# Altium footprint library Avago Technologies Footprints.PcbLib: 71 footprints (part 5 of 5)
Each footprint in its own frame and in the unit in brackets; x right, y up, seen from the top. Pads: shape width x height; smd on the part's side, far side on the other; paste and mask are expansions set on the pad; w line width, h text height; cw(c..) or ccw(c..) is an arc to the next point about the centre after c.
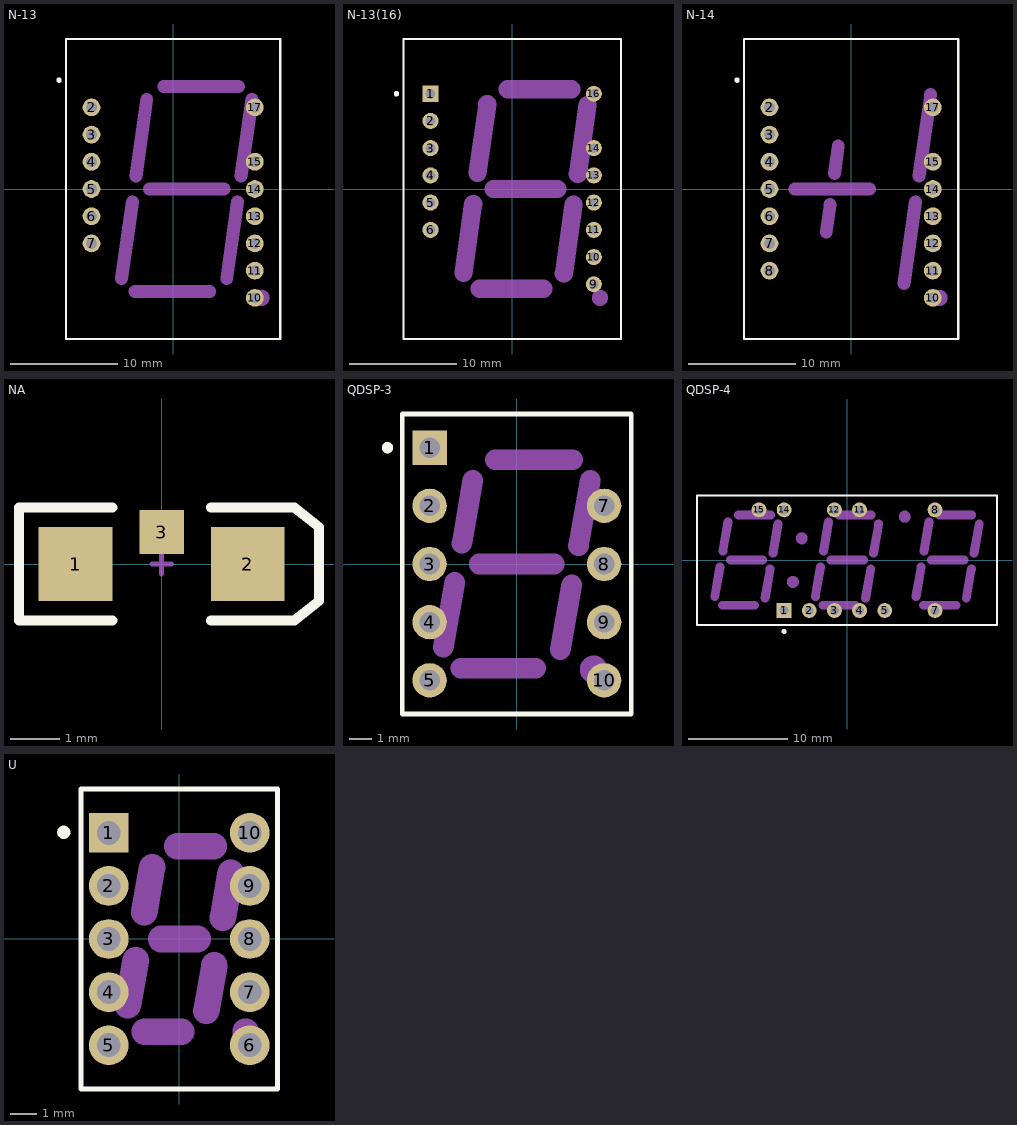
[diagram p4: the footprints below, top view; thin cyan lines are the x and y axes]

## N-13 [mm] "LED, 7-Segment Display, 20.32 mm, RHD; 18 Leads (5 Absent); Row Space 15.24 mm; Pitch 2.54 mm"
height 8.64
pads (13):
  round 1.65 hole 1: 2(-7.62,7.62) 3(-7.62,5.08) 4(-7.62,2.54) 5(-7.62,0) 6(-7.62,-2.54) 7(-7.62,-5.08) 10(7.62,-10.16) 11(7.62,-7.62) 12(7.62,-5.08) 13(7.62,-2.54) 14(7.62,0) 15(7.62,2.54) 17(7.62,7.62)
Top Overlay:
  circle w0.25: c-10.65,10.16 r0.125
  lines w0.2: -10,-14 -10,14 10,14 10,-14 -10,-14
Mechanical 1:
  circle w1.2: c8.25,-10.16 r0.15
  lines w1.2: -4.81,-8.36 -3.8,-1.2 ; -3.57,-9.56 3.42,-9.56 ; -3.47,1.2 -2.46,8.38 ; -2.22,0 4.76,0 ; -0.88,9.56 6.11,9.56 ; 5,-8.36 6,-1.2 ; 6.34,1.2 7.35,8.37

## N-13(16) [mm] "LED, 7-Segment Display, 20.32 mm, RHD; 16 Leads (3 Absent); Row Space 15.24 mm; Pitch 2.54 mm"
height 8.64
pads (13):
  rect 1.5x1.5 hole 0.9: 1(-7.62,8.89)
  round 1.5 hole 0.9: 2(-7.62,6.35) 3(-7.62,3.81) 4(-7.62,1.27) 5(-7.62,-1.27) 6(-7.62,-3.81) 9(7.62,-8.89) 10(7.62,-6.35) 11(7.62,-3.81) 12(7.62,-1.27) 13(7.62,1.27) 14(7.62,3.81) 16(7.62,8.89)
Top Overlay:
  circle w0.25: c-10.8,8.89 r0.125
  lines w0.2: -10.15,-14 -10.15,14 10.15,14 10.15,-14 -10.15,-14
Mechanical 1:
  circle w1.2: c8.2,-10.16 r0.15
  lines w1.7: -4.535,-7.824 -3.634,-1.398 ; -3.227,1.485 -2.322,7.91 ; -3.023,-9.311 2.907,-9.307 ; -1.716,0 4.216,0 ; -0.404,9.31 5.524,9.31 ; 4.821,-7.9 5.728,-1.478 ; 6.132,1.404 7.038,7.827

## N-14 [mm] "LED, 7-Segment Display, 20.32 mm, RHD; 18 Leads (4 Absent); Row Space 15.24 mm; Pitch 2.54 mm"
height 8.64
pads (14):
  round 1.65 hole 1: 2(-7.62,7.62) 3(-7.62,5.08) 4(-7.62,2.54) 5(-7.62,0) 6(-7.62,-2.54) 7(-7.62,-5.08) 8(-7.62,-7.62) 10(7.62,-10.16) 11(7.62,-7.62) 12(7.62,-5.08) 13(7.62,-2.54) 14(7.62,0) 15(7.62,2.54) 17(7.62,7.62)
Top Overlay:
  circle w0.25: c-10.65,10.16 r0.125
  lines w0.2: -10,-14 -10,14 10,14 10,-14 -10,-14
Mechanical 1:
  circle w1.2: c8.25,-10.16 r0.15
  lines w1.2: -5.27,0 1.71,0 ; -2.32,-4 -1.96,-1.45 ; -1.56,1.45 -1.2,4 ; 4.93,-8.835 6,-1.2 ; 6.34,1.2 7.42,8.835

## NA [mm] "SM Right-Angle Mount LED; 3 Leads"
pads (3):
  rect 1.5x1.5 smd: 1(-1.75,0) 2(1.75,0)
  rect 0.9x0.9 smd: 3(0,0.65)
Top Overlay:
  lines w0.2: -1,-1.15 -2.9,-1.15 -2.9,1.15 -1,1.15 ; 1,-1.15 2.7,-1.15 3.2,-0.75 3.2,0.75 2.7,1.15 1,1.15
Mechanical 1:
  lines w0.1: -0.2,0 0.2,0 ; 0,-0.2 0,0.2

## QDSP-3 [mm] "LED, 7-Segment Display, 10 mm, RHD; 10 Leads (1 Absent); Row Space 7.62 mm; Pitch 2.54 mm"
height 7.25
pads (9):
  rect 1.5x1.5 hole 0.9: 1(-3.81,5.08)
  round 1.5 hole 0.9: 2(-3.81,2.54) 3(-3.81,0) 4(-3.81,-2.54) 5(-3.81,-5.08) 7(3.81,2.54) 8(3.81,0) 9(3.81,-2.54) 10(3.81,-5.08)
Top Overlay:
  circle w0.25: c-5.65,5.08 r0.125
  lines w0.2: -5,-6.55 5,-6.55 5,6.55 -5,6.55 -5,-6.55
Mechanical 1:
  circle w0.86: c3.35,-4.6 r0.17
  lines w0.9: -3.21,-3.64 -2.71,-0.8 ; -2.45,-4.55 0.83,-4.55 ; -2.4,0.9 -1.92,3.65 ; -1.65,0 1.63,0 ; -0.95,4.55 2.44,4.55 ; 1.89,-3.75 2.4,-0.9 ; 2.69,0.8 3.2,3.65

## QDSP-4 [mm] "LED, 7-Segment Display, 10 mm, Three Digit; 15 Leads (4 Absent); Row Space 10.16 mm; Pitch 2.54 mm"
height 7.25
pads (11):
  rect 1.5x1.5 hole 0.9: 1(-6.35,-5.08)
  round 1.5 hole 0.9: 2(-3.81,-5.08) 3(-1.27,-5.08) 4(1.27,-5.08) 5(3.81,-5.08) 7(8.89,-5.08) 8(8.89,5.08) 11(1.27,5.08) 12(-1.27,5.08) 14(-6.35,5.08) 15(-8.89,5.08)
Top Overlay:
  circle w0.25: c-6.35,-7.2 r0.125
  lines w0.2: -15.15,-6.55 15.15,-6.55 15.15,6.55 -15.15,6.55 -15.15,-6.55
Mechanical 1:
  circle w0.86: c5.83,4.4 r0.17
  circle w0.86: c-5.47,-2.2 r0.17
  circle w0.86: c-4.57,2.2 r0.17
  lines w0.9: -13.36,-3.65 -12.83,-0.7 ; -12.592,-4.55 -9.33,-4.55 ; -12.54,0.9 -12.03,3.84 ; -11.79,0 -8.51,0 ; -10.988,4.55 -7.72,4.55 ; -8.28,-3.85 -7.76,-0.9 ; -7.48,0.7 -6.96,3.65 ; -3.2,-3.65 -2.67,-0.7 ; -2.432,-4.55 0.83,-4.55 ; -2.38,0.9 -1.87,3.84 ; -1.63,0 1.65,0 ; -0.828,4.55 2.44,4.55 ; 1.88,-3.85 2.4,-0.9 ; 2.68,0.7 3.2,3.65 ; 6.96,-3.65 7.49,-0.7 ; 7.728,-4.55 10.99,-4.55 ; 7.78,0.9 8.29,3.84 ; 8.53,0 11.81,0 ; 9.332,4.55 12.6,4.55 ; 12.04,-3.85 12.56,-0.9 ; 12.84,0.7 13.36,3.65

## U [mm] "LED, 7-Segment Display, 8 mm, RHD; 10 Leads; Row Space 5.31 mm; Pitch 2.01 mm"
height 5.26
pads (10):
  rect 1.5x1.5 hole 0.9: 1(-2.655,4)
  round 1.5 hole 0.9: 2(-2.655,2) 3(-2.655,0) 4(-2.655,-2) 5(-2.655,-4) 6(2.655,-4) 7(2.655,-2) 8(2.655,0) 9(2.655,2) 10(2.655,4)
Top Overlay:
  circle w0.25: c-4.35,4.02 r0.125
  lines w0.2: -3.7,-5.65 3.7,-5.65 3.7,5.65 -0.635,5.65 -3.7,5.65 -3.7,-5.65
Mechanical 1:
  circle w0.75: c2.5,-3.5 r0.13
  lines w1: -1.939,-2.497 -1.642,-0.801 ; -1.322,1.002 -1.024,2.699 ; -1.302,-3.5 0.066,-3.5 ; -0.685,0 0.686,0 ; -0.067,3.5 1.303,3.5 ; 1.024,-2.699 1.324,-0.999 ; 1.641,0.802 1.938,2.5